# Altium footprint library HOLE.PcbLib: 3 footprints
Each footprint in its own frame and in the unit in brackets; x right, y up, seen from the top. Pads: shape width x height; smd on the part's side, far side on the other; paste and mask are expansions set on the pad; w line width, h text height; cw(c..) or ccw(c..) is an arc to the next point about the centre after c.
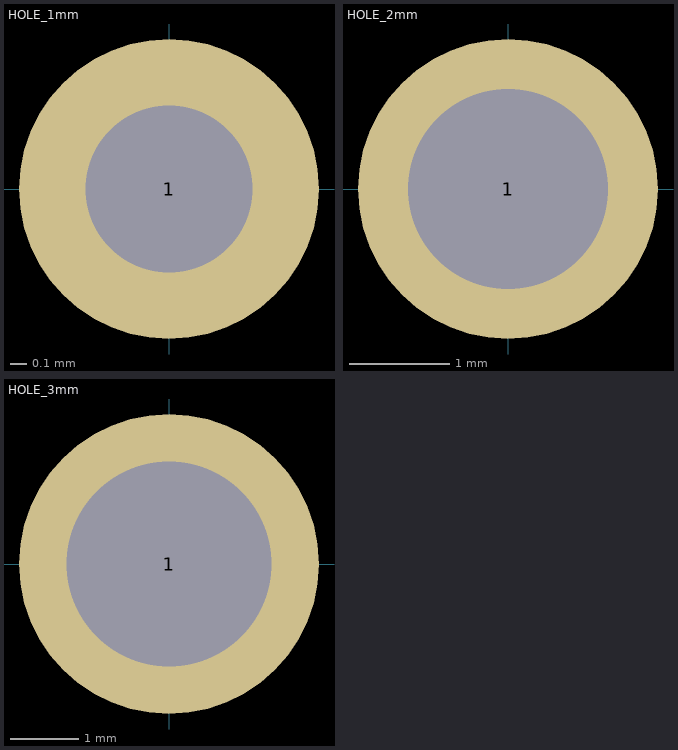
[diagram p0: the footprints below, top view; thin cyan lines are the x and y axes]

## HOLE_1mm [mm]
pads (1):
  round 1.8 hole 1: 1(0,0)

## HOLE_2mm [mm]
pads (1):
  round 3 hole 2: 1(0,0)

## HOLE_3mm [mm]
pads (1):
  round 4.4 hole 3: 1(0,0)